# Altium footprint library LED.PcbLib: 19 footprints (part 2 of 2)
Each footprint in its own frame and in the unit in brackets; x right, y up, seen from the top. Pads: shape width x height; smd on the part's side, far side on the other; paste and mask are expansions set on the pad; w line width, h text height; cw(c..) or ccw(c..) is an arc to the next point about the centre after c.
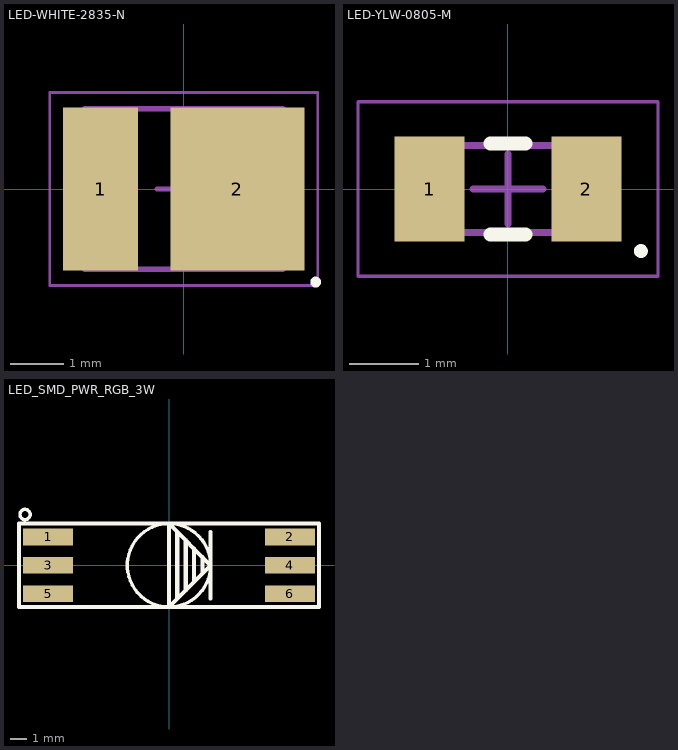
[diagram p1: the footprints below, top view; thin cyan lines are the x and y axes]

## LED-WHITE-2835-N [mm] "Chip Diode, 2-Leads, Body 3,60x2,90mm, IPC Medium Density"
height 0.8
pads (2):
  rect 1.4x3.05 smd: 1(-1.55,0)
  rect 2.5x3.05 smd: 2(1,0)
Top Overlay:
  circle w0.1: c2.462,-1.737 r0.05
Mechanical 13:
  lines w0.1: -1.85,-1.5 -1.85,1.5 1.85,1.5 1.85,-1.5 -1.85,-1.5
Mechanical 15:
  lines w0.05: -2.5,-1.8 -2.5,1.8 2.5,1.8 2.5,-1.8 -2.5,-1.8
  lines w0.1: -0.5,0 0.5,0 ; 0,-0.5 0,0.5
3D body "User Library-LED_2835_Samsung_SPMWH1228.step": height 0.7, standoff 0, extent -1.748,-1.4 1.747,1.399

## LED-YLW-0805-M [mm] "Chip Diode, 2-Leads, Body 2.00x1.25mm, IPC Low Density"
height 0.8
pads (2):
  rect 1x1.5 smd: 1(-1.125,0) 2(1.125,0)
Top Overlay:
  circle w0.1: c1.905,-0.889 r0.05
  lines w0.2: -0.25,-0.65 0.25,-0.65 ; -0.25,0.65 0.25,0.65
Mechanical 13:
  lines w0.1: -1,-0.625 -1,0.625 1,0.625 1,-0.625 -1,-0.625
Mechanical 15:
  lines w0.05: -2.15,-1.25 -2.15,1.25 2.15,1.25 2.15,-1.25 -2.15,-1.25
  lines w0.1: -0.5,0 0.5,0 ; 0,-0.5 0,0.5
3D body "led-0805-yellow.step": height 0.8, standoff -0.31, extent -1,-0.625 1,0.625

## LED_SMD_PWR_RGB_3W [mm] "LED_SMD_PWR_RGB_3W"
height 2
pads (6):
  rect 3x1 smd: 1(-7.25,1.7) 2(7.25,1.7) 3(-7.25,0) 4(7.25,0) 5(-7.25,-1.7) 6(7.25,-1.7)
Top Overlay:
  circle w0.2: c0,0 r2.5
  circle w0.2: c-8.636,3.048 r0.308
  lines w0.25: 0.5,-2 0.5,2 ; 1,-1.5 1,1.5 ; 1.5,-1 1.5,1 ; 2,-0.5 2,0.5 ; 2.5,-2 2.5,2 2.5,0 ; 2.5,0 0,2.5 0,-2.5 2.5,0 ; -9,-2.5 -9,2.5 9,2.5 9,-2.5 -9,-2.5